# Altium footprint library SamacSys.PcbLib: 53 footprints (part 2 of 4)
Each footprint in its own frame and in the unit in brackets; x right, y up, seen from the top. Pads: shape width x height; smd on the part's side, far side on the other; paste and mask are expansions set on the pad; w line width, h text height; cw(c..) or ccw(c..) is an arc to the next point about the centre after c.
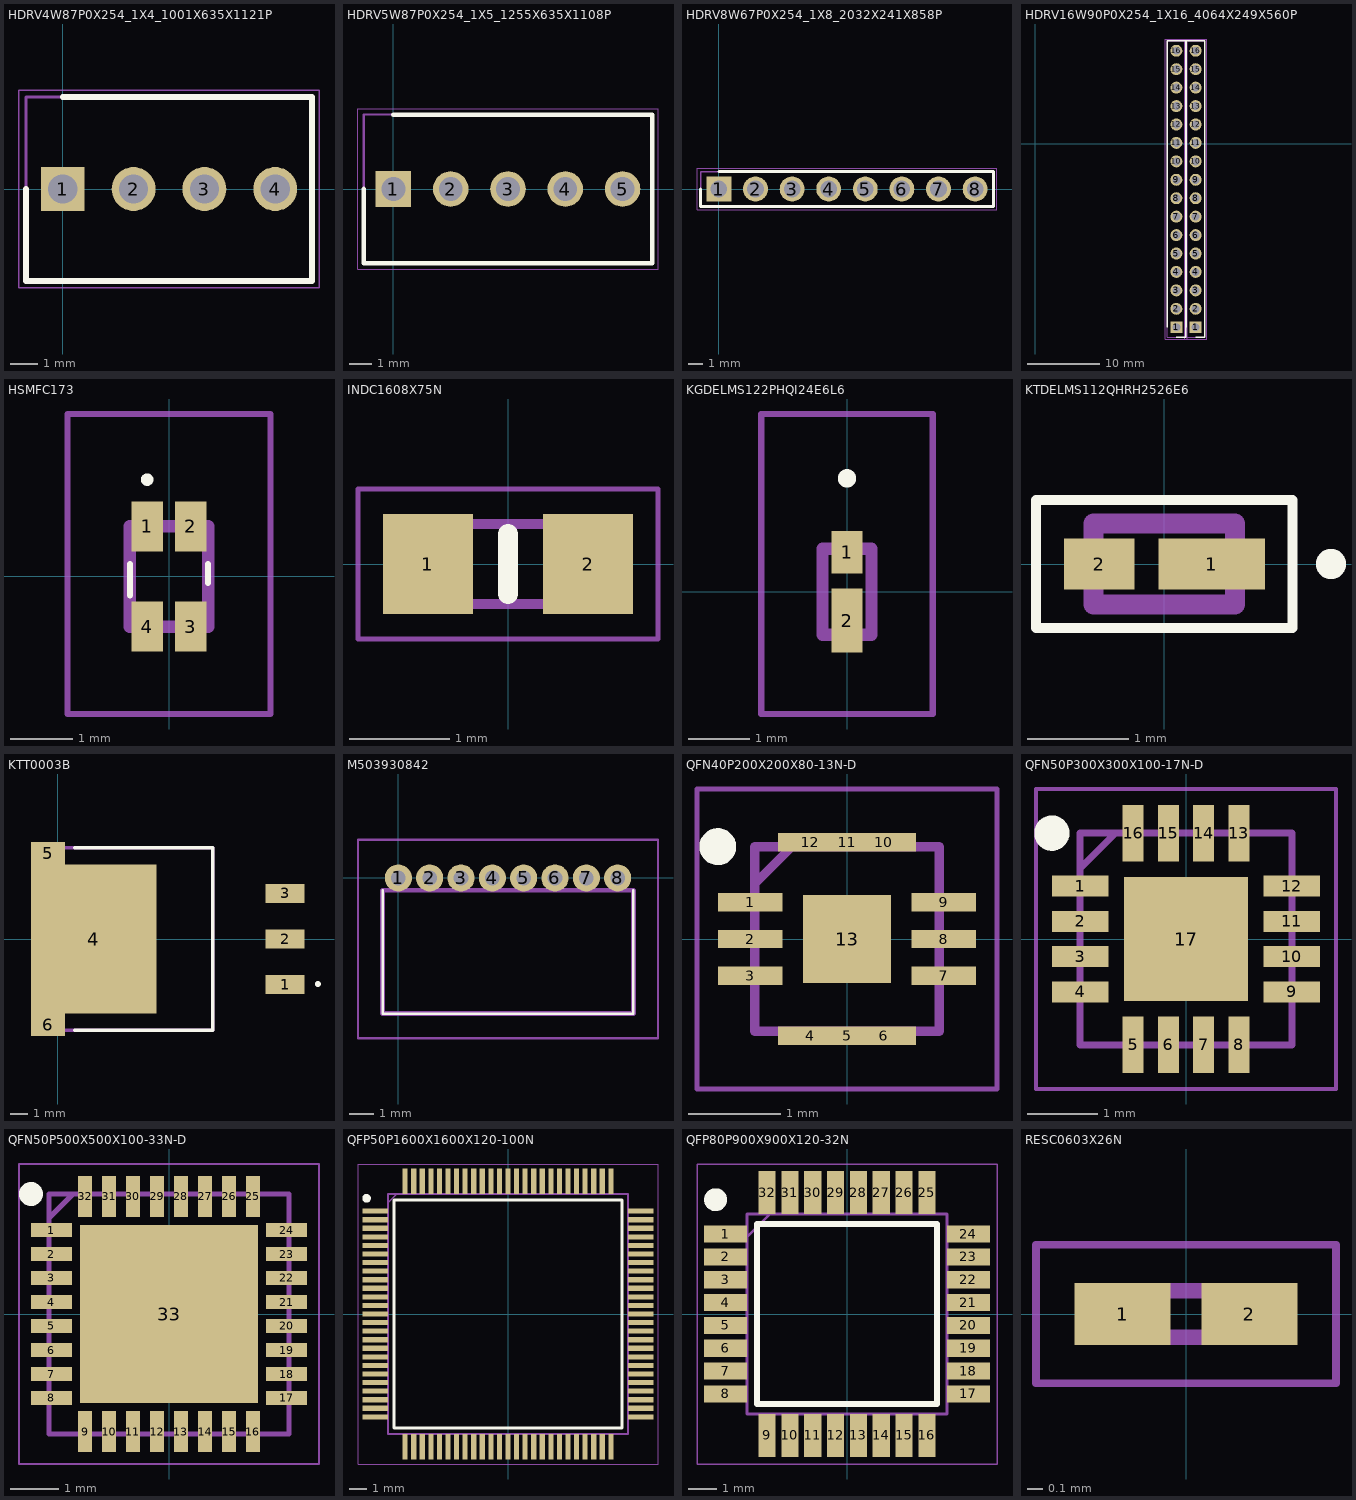
[diagram p1: the footprints below, top view; thin cyan lines are the x and y axes]

## HDRV4W87P0X254_1X4_1001X635X1121P [mm]
pads (4):
  rect 1.575x1.575 hole 1.05: 1(0,0)
  round 1.575 hole 1.05: 2(2.54,0) 3(5.08,0) 4(7.62,0)
Top Overlay:
  lines w0.2: -1.32,0 -1.32,-3.3 8.94,-3.3 8.94,3.3 0,3.3
Mechanical 13:
  lines w0.1: -1.32,-3.3 -1.32,3.3 8.94,3.3 8.94,-3.3 -1.32,-3.3
Mechanical 15:
  lines w0.05: -1.57,-3.55 -1.57,3.55 9.19,3.55 9.19,-3.55 -1.57,-3.55
3D body "22-23-2042.stp": height 11.21, standoff -1.88, extent -1.195,-3.175 8.815,3.175

## HDRV5W87P0X254_1X5_1255X635X1108P [mm]
pads (5):
  rect 1.575x1.575 hole 1.05: 1(0,0)
  round 1.575 hole 1.05: 2(2.54,0) 3(5.08,0) 4(7.62,0) 5(10.16,0)
Top Overlay:
  lines w0.2: -1.32,0 -1.32,-3.3 11.48,-3.3 11.48,3.3 0,3.3
Mechanical 13:
  lines w0.1: -1.32,-3.3 11.48,-3.3 11.48,3.3 -1.32,3.3 -1.32,-3.3
Mechanical 15:
  lines w0.05: -1.57,-3.55 11.73,-3.55 11.73,3.55 -1.57,3.55 -1.57,-3.55
3D body "22-23-2052.stp": height 11.08, standoff -2.13, extent -1.195,-3.175 11.355,3.175

## HDRV8W67P0X254_1X8_2032X241X858P [mm]
pads (8):
  rect 1.725x1.725 hole 1.15: 1(0,0)
  round 1.725 hole 1.15: 2(2.54,0) 3(5.08,0) 4(7.62,0) 5(10.16,0) 6(12.7,0) 7(15.24,0) 8(17.78,0)
Top Overlay:
  lines w0.2: -1.27,0 -1.27,-1.205 19.05,-1.205 19.05,1.205 0,1.205
Mechanical 13:
  lines w0.1: -1.27,-1.205 -1.27,1.205 19.05,1.205 19.05,-1.205 -1.27,-1.205
Mechanical 15:
  lines w0.05: -1.52,-1.455 -1.52,1.455 19.3,1.455 19.3,-1.455 -1.52,-1.455
3D body "10129378-908001BLF.stp": height 8.58, standoff -3.3, extent -1.27,-1.205 19.05,1.205

## HDRV16W90P0X254_1X16_4064X249X560P [mm]
pads (32):
  rect 1.65x1.65 hole 1.1: 1(19.431,-25.273) 1(22.098,-25.273)
  round 1.65 hole 1.1: 2(19.431,-22.733) 2(22.098,-22.733) 3(19.431,-20.193) 3(22.098,-20.193) 4(19.431,-17.653) 4(22.098,-17.653) 5(19.431,-15.113) 5(22.098,-15.113) 6(19.431,-12.573) 6(22.098,-12.573) 7(19.431,-10.033) 7(22.098,-10.033) 8(19.431,-7.493) 8(22.098,-7.493) 9(19.431,-4.953) 9(22.098,-4.953) 10(19.431,-2.413) 10(22.098,-2.413) 11(19.431,0.127) 11(22.098,0.127) 12(19.431,2.667) 12(22.098,2.667) 13(19.431,5.207) 13(22.098,5.207) 14(19.431,7.747) 14(22.098,7.747) 15(19.431,10.287) 15(22.098,10.287) 16(19.431,12.827) 16(22.098,12.827)
Top Overlay:
  lines w0.2: 18.161,-25.273 18.161,14.197 20.701,14.197 20.701,-26.643 19.431,-26.643 ; 20.828,-25.273 20.828,14.197 23.368,14.197 23.368,-26.643 22.098,-26.643
Mechanical 13:
  lines w0.1: 18.161,-26.643 18.161,14.197 20.701,14.197 20.701,-26.643 18.161,-26.643 ; 20.828,-26.643 23.368,-26.643 23.368,14.197 20.828,14.197 20.828,-26.643
Mechanical 15:
  lines w0.05: 17.911,-26.893 17.911,14.447 20.951,14.447 20.951,-26.893 17.911,-26.893 ; 20.578,-26.893 23.618,-26.893 23.618,14.447 20.578,14.447 20.578,-26.893
3D body "90120-0136.stp": height 5.6, standoff -6.95, extent 18.186,-26.543 20.676,14.097
3D body "90120-0136.stp": height 5.6, standoff -6.95, extent 20.878,-26.543 23.368,14.097

## HSMFC173 [mm]
pads (4):
  rect 0.5x0.8 smd: 1(-0.35,0.8) 2(0.35,0.8) 3(0.35,-0.8) 4(-0.35,-0.8)
Top Overlay:
  lines w0.1: -0.625,-0.3 -0.625,0.2 ; 0.625,-0.1 0.625,0.2 ; -0.35,1.5 cw(c-0.35,1.55) -0.35,1.6 cw(c-0.35,1.55) -0.35,1.5
Mechanical 13:
  lines w0.2: -0.625,-0.8 -0.625,0.8 0.625,0.8 0.625,-0.8 -0.625,-0.8
Mechanical 15:
  lines w0.1: -1.625,-2.2 -1.625,2.6 1.625,2.6 1.625,-2.2 -1.625,-2.2
3D body "HSMF-C173.stp": height 0.6, standoff 0, extent -0.625,-0.8 0.625,0.8

## INDC1608X75N [mm]
pads (2):
  rect 0.9x1 smd: 1(-0.8,0) 2(0.8,0)
Top Overlay:
  lines w0.2: 0,-0.3 0,0.3
Mechanical 13:
  lines w0.1: -0.8,-0.4 -0.8,0.4 0.8,0.4 0.8,-0.4 -0.8,-0.4
Mechanical 15:
  lines w0.05: -1.5,-0.75 -1.5,0.75 1.5,0.75 1.5,-0.75 -1.5,-0.75
3D body "MAF1608GAD201LTAH0.stp": height 0.75, standoff 0, extent -0.8,-0.4 0.8,0.4

## KGDELMS122PHQI24E6L6 [mm]
pads (2):
  rect 0.5x0.7 smd: 1(0,0.645)
  rect 0.5x1.05 smd: 2(0,-0.47)
Top Overlay:
  lines w0.2: 0,1.8 ccw(c0,1.85) 0,1.9 ; 0,1.8 cw(c0,1.85) 0,1.9 ; 0,1.8 ccw(c0,1.85) 0,1.9
Mechanical 13:
  lines w0.2: -0.4,-0.7 0.4,-0.7 0.4,0.7 -0.4,0.7 -0.4,-0.7
Mechanical 15:
  lines w0.1: -1.4,-1.995 1.4,-1.995 1.4,2.9 -1.4,2.9 -1.4,-1.995
3D body "KG_DELMS1.22-PHQI-24-E6L6.stp": height 0.7, standoff 0, extent -0.4,-0.7 0.4,0.7

## KTDELMS112QHRH2526E6 [mm]
pads (2):
  rect 1.05x0.5 smd: 1(0.47,0)
  rect 0.7x0.5 smd: 2(-0.645,0)
Top Overlay:
  lines w0.1: -1.27,-0.635 1.27,-0.635 1.27,0.635 -1.27,0.635 -1.27,-0.635
  lines w0.2: 1.6,0 ccw(c1.65,0) 1.7,0 ; 1.6,0 cw(c1.65,0) 1.7,0 ; 1.6,0 ccw(c1.65,0) 1.7,0
Mechanical 13:
  lines w0.2: -0.7,-0.4 0.7,-0.4 0.7,0.4 -0.7,0.4 -0.7,-0.4
3D body "KT_DELMS1.12-QHRH-25-26E6.stp": height 0.7, standoff 0, extent -0.7,-0.4 0.7,0.4

## KTT0003B [mm]
pads (6):
  rect 2.16x1.07 smd: 1(12.67,-2.54) 2(12.67,0) 3(12.67,2.54)
  rect 7x8.33 smd: 4(2,0)
  rect 1.91x1.235 smd: 5(-0.545,4.782) 6(-0.545,-4.782)
Top Overlay:
  circle w0.2: c14.497,-2.51 r0.065
  lines w0.2: 0.94,-5.08 8.64,-5.08 8.64,5.08 0.94,5.08
Mechanical 13:
  lines w0.2: 0,-5.08 8.64,-5.08 8.64,5.08 0,5.08 0,-5.08
3D body "LM1084ISX-5.0_NOPB.stp": height 4.54, standoff 0, extent -1.517,-5.08 13.722,5.08

## M503930842 [mm]
pads (8):
  round 1.1 hole 0.6: 1(0,0) 2(1.27,0) 3(2.54,0) 4(3.81,0) 5(5.08,0) 6(6.35,0) 7(7.62,0) 8(8.89,0)
Top Overlay:
  lines w0.1: -0.635,-0.5 -0.635,-5.5 9.525,-5.5 9.525,-0.5
Mechanical 13:
  lines w0.2: -0.635,-5.5 9.525,-5.5 9.525,-0.5 -0.635,-0.5 -0.635,-5.5
Mechanical 15:
  lines w0.1: -1.635,-6.5 10.525,-6.5 10.525,1.55 -1.635,1.55 -1.635,-6.5
3D body "M50-3930842.stp": height 2.4, standoff -5, extent -0.635,-5.5 9.525,0.2

## QFN40P200X200X80-13N-D [mm]
pads (13):
  rect 0.7x0.2 smd: 1(-1.05,0.4) 2(-1.05,0) 3(-1.05,-0.4) 4(-0.4,-1.05) 5(0,-1.05) 6(0.4,-1.05) 7(1.05,-0.4) 8(1.05,0) 9(1.05,0.4) 10(0.4,1.05) 11(0,1.05) 12(-0.4,1.05)
  rect 0.95x0.95 smd: 13(0,0)
Top Overlay:
  circle w0.2: c-1.4,1 r0.1
Mechanical 13:
  lines w0.1: -1,0.6 -0.6,1 ; -1,-1 -1,1 1,1 1,-1 -1,-1
Mechanical 15:
  lines w0.05: -1.625,-1.625 -1.625,1.625 1.625,1.625 1.625,-1.625 -1.625,-1.625
3D body "PAM8904EGPR.stp": height 0.8, standoff 0, extent -1.05,-1.05 1.05,1.05

## QFN50P300X300X100-17N-D [mm]
pads (17):
  rect 0.8x0.3 smd: 1(-1.5,0.75) 2(-1.5,0.25) 3(-1.5,-0.25) 4(-1.5,-0.75) 9(1.5,-0.75) 10(1.5,-0.25) 11(1.5,0.25) 12(1.5,0.75)
  rect 0.3x0.8 smd: 5(-0.75,-1.5) 6(-0.25,-1.5) 7(0.25,-1.5) 8(0.75,-1.5) 13(0.75,1.5) 14(0.25,1.5) 15(-0.25,1.5) 16(-0.75,1.5)
  rect 1.75x1.75 smd: 17(0,0)
Top Overlay:
  circle w0.25: c-1.9,1.5 r0.125
Mechanical 13:
  lines w0.1: -1.5,1 -1,1.5 ; -1.5,-1.5 1.5,-1.5 1.5,1.5 -1.5,1.5 -1.5,-1.5
Mechanical 15:
  lines w0.05: -2.125,-2.125 2.125,-2.125 2.125,2.125 -2.125,2.125 -2.125,-2.125
3D body "BQ24230RGTR.stp": height 1, standoff 0, extent -1.55,-1.55 1.55,1.55

## QFN50P500X500X100-33N-D [mm]
pads (33):
  rect 0.85x0.3 smd: 1(-2.45,1.75) 2(-2.45,1.25) 3(-2.45,0.75) 4(-2.45,0.25) 5(-2.45,-0.25) 6(-2.45,-0.75) 7(-2.45,-1.25) 8(-2.45,-1.75) 17(2.45,-1.75) 18(2.45,-1.25) 19(2.45,-0.75) 20(2.45,-0.25) 21(2.45,0.25) 22(2.45,0.75) 23(2.45,1.25) 24(2.45,1.75)
  rect 0.3x0.85 smd: 9(-1.75,-2.45) 10(-1.25,-2.45) 11(-0.75,-2.45) 12(-0.25,-2.45) 13(0.25,-2.45) 14(0.75,-2.45) 15(1.25,-2.45) 16(1.75,-2.45) 25(1.75,2.45) 26(1.25,2.45) 27(0.75,2.45) 28(0.25,2.45) 29(-0.25,2.45) 30(-0.75,2.45) 31(-1.25,2.45) 32(-1.75,2.45)
  rect 3.7x3.7 smd: 33(0,0)
Top Overlay:
  circle w0.25: c-2.875,2.5 r0.125
Mechanical 13:
  lines w0.1: -2.5,2 -2,2.5 ; -2.5,-2.5 2.5,-2.5 2.5,2.5 -2.5,2.5 -2.5,-2.5
Mechanical 15:
  lines w0.05: -3.125,-3.125 3.125,-3.125 3.125,3.125 -3.125,3.125 -3.125,-3.125
3D body "ATSAMD21E17L-MN.stp": height 1, standoff 0, extent -2.55,-2.55 2.55,2.55

## QFP50P1600X1600X120-100N [mm]
pads (100):
  rect 1.5x0.3 smd: 1(-7.75,6) 2(-7.75,5.5) 3(-7.75,5) 4(-7.75,4.5) 5(-7.75,4) 6(-7.75,3.5) 7(-7.75,3) 8(-7.75,2.5) 9(-7.75,2) 10(-7.75,1.5) 11(-7.75,1) 12(-7.75,0.5) 13(-7.75,0) 14(-7.75,-0.5) 15(-7.75,-1) 16(-7.75,-1.5) 17(-7.75,-2) 18(-7.75,-2.5) 19(-7.75,-3) 20(-7.75,-3.5) 21(-7.75,-4) 22(-7.75,-4.5) 23(-7.75,-5) 24(-7.75,-5.5) 25(-7.75,-6) 51(7.75,-6) 52(7.75,-5.5) 53(7.75,-5) 54(7.75,-4.5) 55(7.75,-4) 56(7.75,-3.5) 57(7.75,-3) 58(7.75,-2.5) 59(7.75,-2) 60(7.75,-1.5) 61(7.75,-1) 62(7.75,-0.5) 63(7.75,0) 64(7.75,0.5) 65(7.75,1) 66(7.75,1.5) 67(7.75,2) 68(7.75,2.5) 69(7.75,3) 70(7.75,3.5) 71(7.75,4) 72(7.75,4.5) 73(7.75,5) 74(7.75,5.5) 75(7.75,6)
  rect 0.3x1.5 smd: 26(-6,-7.75) 27(-5.5,-7.75) 28(-5,-7.75) 29(-4.5,-7.75) 30(-4,-7.75) 31(-3.5,-7.75) 32(-3,-7.75) 33(-2.5,-7.75) 34(-2,-7.75) 35(-1.5,-7.75) 36(-1,-7.75) 37(-0.5,-7.75) 38(0,-7.75) 39(0.5,-7.75) 40(1,-7.75) 41(1.5,-7.75) 42(2,-7.75) 43(2.5,-7.75) 44(3,-7.75) 45(3.5,-7.75) 46(4,-7.75) 47(4.5,-7.75) 48(5,-7.75) 49(5.5,-7.75) 50(6,-7.75) 76(6,7.75) 77(5.5,7.75) 78(5,7.75) 79(4.5,7.75) 80(4,7.75) 81(3.5,7.75) 82(3,7.75) 83(2.5,7.75) 84(2,7.75) 85(1.5,7.75) 86(1,7.75) 87(0.5,7.75) 88(0,7.75) 89(-0.5,7.75) 90(-1,7.75) 91(-1.5,7.75) 92(-2,7.75) 93(-2.5,7.75) 94(-3,7.75) 95(-3.5,7.75) 96(-4,7.75) 97(-4.5,7.75) 98(-5,7.75) 99(-5.5,7.75) 100(-6,7.75)
Top Overlay:
  circle w0.25: c-8.25,6.75 r0.125
  lines w0.2: -6.65,-6.65 -6.65,6.65 6.65,6.65 6.65,-6.65 -6.65,-6.65
Mechanical 13:
  lines w0.1: -7,6.5 -6.5,7 ; -7,-7 -7,7 7,7 7,-7 -7,-7
Mechanical 15:
  lines w0.05: -8.75,-8.75 -8.75,8.75 8.75,8.75 8.75,-8.75 -8.75,-8.75
3D body "ATMEGA2560-16AU.stp": height 1.2, standoff 0, extent -8,-8 8,8

## QFP80P900X900X120-32N [mm]
pads (32):
  rect 1.5x0.6 smd: 1(-4.25,2.8) 2(-4.25,2) 3(-4.25,1.2) 4(-4.25,0.4) 5(-4.25,-0.4) 6(-4.25,-1.2) 7(-4.25,-2) 8(-4.25,-2.8) 17(4.25,-2.8) 18(4.25,-2) 19(4.25,-1.2) 20(4.25,-0.4) 21(4.25,0.4) 22(4.25,1.2) 23(4.25,2) 24(4.25,2.8)
  rect 0.6x1.5 smd: 9(-2.8,-4.25) 10(-2,-4.25) 11(-1.2,-4.25) 12(-0.4,-4.25) 13(0.4,-4.25) 14(1.2,-4.25) 15(2,-4.25) 16(2.8,-4.25) 25(2.8,4.25) 26(2,4.25) 27(1.2,4.25) 28(0.4,4.25) 29(-0.4,4.25) 30(-1.2,4.25) 31(-2,4.25) 32(-2.8,4.25)
Top Overlay:
  circle w0.4: c-4.6,4 r0.2
  lines w0.2: -3.15,-3.15 -3.15,3.15 3.15,3.15 3.15,-3.15 -3.15,-3.15
Mechanical 13:
  lines w0.1: -3.5,2.7 -2.7,3.5 ; -3.5,-3.5 -3.5,3.5 3.5,3.5 3.5,-3.5 -3.5,-3.5
Mechanical 15:
  lines w0.05: -5.25,-5.25 -5.25,5.25 5.25,5.25 5.25,-5.25 -5.25,-5.25
3D body "ATMEGA328P-AU.stp": height 1.2, standoff 0, extent -4.5,-4.5 4.5,4.5

## RESC0603X26N [mm]
pads (2):
  rect 0.625x0.4 smd: 1(-0.412,0) 2(0.412,0)
Mechanical 13:
  lines w0.1: -0.3,-0.15 -0.3,0.15 0.3,0.15 0.3,-0.15 -0.3,-0.15
Mechanical 15:
  lines w0.05: -0.975,-0.45 -0.975,0.45 0.975,0.45 0.975,-0.45 -0.975,-0.45
3D body "CR0201AFW-1002GAS.stp": height 0.26, standoff 0, extent -0.3,-0.15 0.3,0.15